# EAGLE library part MAGI³C-VDRM_LGA-16EP_171011801 (library 171050601_Eagle_VDRM_rev19a)
MagI³C-VDRM Variable Step Down Regulator Module Characteristics Low conducted and radiated EMI (compliant to EN55022 class B / CISPR-22) TO263-7EP Leaded package for easy manufacturing and prototyping Simple layout Wide input voltage range for input transient capability Support ambient temperatures up to + 105 °C 2 solder cycles supported QFN Low profile package Simple application circuit (only 4 external components required) Optional multiple features (adj.frequency, adj.softstart, power good, sequencing, tracking, synchronization to external clock, adjustable undervoltage lockout) Wide input voltage range QFN41 type 3 solder cycles supported LGA-16EP Low profile LGA-package Stand alone solution (CIN and COUT integrated, 2 external components to set VOUT) Ideal for space constrained applications 2 solder cycles supported Applications Point-of-Load DC-DC applications from 24V, 18V, 15V, 12V, 9V, 5V industrial rails Industrial, Test & Measurement, Medical applications System power supplies I/O interface power supply DSPs, FPGAs, MCUs and MPUs supply High density distributed power systems Telecommunication applications <https://katalog.we-online.com/media/images/v2/o33388v209%20MagIC_VDRM_pf2.jpg> Details see: https://katalog.we-online.com/en/pm/MAGIC-VDRM Updated by Ella Wu 2019-09-19 2019(C) Wurth Elektronik
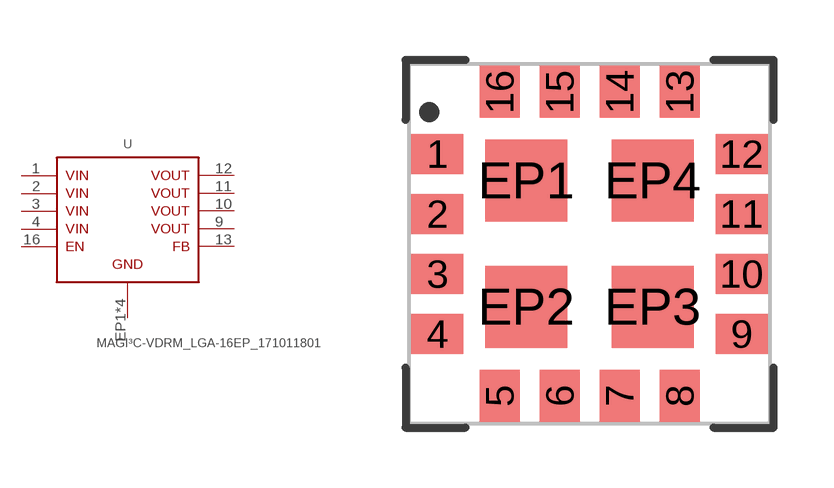
[diagram p4: symbol with the pads of MAGI³C-VDRM_LGA-16EP; footprint MAGI³C-VDRM_LGA-16EP]

Designator prefix U

## MAGI³C-VDRM_LGA-16EP_171011801 (DATASHEET-URL: https://katalog.we-online.de/pm/datasheet/171011801.pdf; I-OUTPUT: 1A; MOUNT: SMT; PART-NUMBER: 171011801; V-INPUT: 4-18V; V-OUTPUT: 0.8-17V)  [MAGI³C-VDRM_LGA-16EP]
1  VIN1
2  VIN2
3  VIN3
4  VIN4
9  9VOUT
10  10VOUT
11  11VOUT
12  12VOUT
13  13FB
16  16EN
EP1  GND
EP2  GND
EP3  GND
EP4  GND

## Footprint MAGI³C-VDRM_LGA-16EP (pad centres in mm)
MagI³C-VDRM Variable Step Down Regulator Module Size : LGA-16EP
smd 1.3 x 1: 1 -3.8,2.25; 2 -3.8,0.75; 3 -3.8,-0.75; 4 -3.8,-2.25; 9 3.8,-2.25; 10 3.8,-0.75; 11 3.8,0.75; 12 3.8,2.25
smd 1 x 1.3: 5 -2.25,-3.8; 6 -0.75,-3.8; 7 0.75,-3.8; 8 2.25,-3.8; 13 2.25,3.8; 14 0.75,3.8; 15 -0.75,3.8; 16 -2.25,3.8
smd 2.05 x 2.05: EP1 -1.58,1.58; EP2 -1.58,-1.58; EP3 1.58,-1.58; EP4 1.58,1.58